# EAGLE library part TPS2041BD (library IC)
Manufacturer Texas Instruments, Manufacturer Part Number TPS2041BD, Digikey Part # 96-22880-5-ND,Package / Case 8-SOIC (0.154", 3.90mm Width),Voltage - Input 2.7 V ~ 5.5 V,Operating Temperature -40°C ~ 85°C
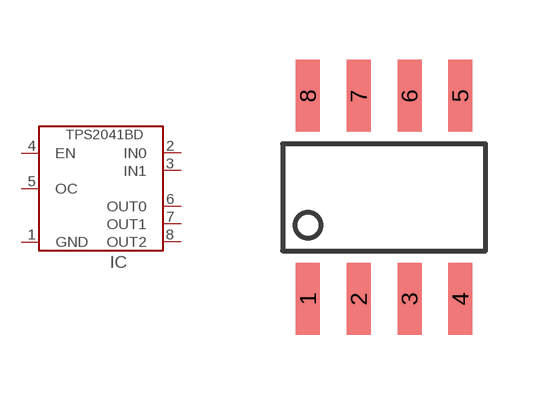
[diagram p198: symbol with the pads of SOIC8; footprint SOIC8]

Designator prefix IC

## TPS2041BD  [SOIC8]
1  GND
2  IN0
3  IN1
4  EN
5  OC
6  OUT0
7  OUT1
8  OUT2

## Footprint SOIC8 (pad centres in mm)
8 pin SOIC 150-mil package
smd 0.6 x 1.8: 1 -1.905,-2.54; 2 -0.635,-2.54; 3 0.635,-2.54; 4 1.905,-2.54; 5 1.905,2.54; 6 0.635,2.54; 7 -0.635,2.54; 8 -1.905,2.54